# Altium schematic symbol library RELAY_OMRON.SchLib: 1 symbol
Pins are listed as number, name and electrical type; pins without a type are passive.

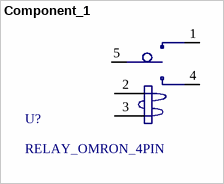
[diagram p0: symbol Component_1]

## Component_1
designator U?, comment RELAY_OMRON_4PIN
footprint PCBComponent_1
pins: 1, 2, 3, 4, 5 6